# Altium footprint library AAI_PCB.PCB_Library.PcbLib: 16 footprints
Each footprint in its own frame and in the unit in brackets; x right, y up, seen from the top. Pads: shape width x height; smd on the part's side, far side on the other; paste and mask are expansions set on the pad; w line width, h text height; cw(c..) or ccw(c..) is an arc to the next point about the centre after c.
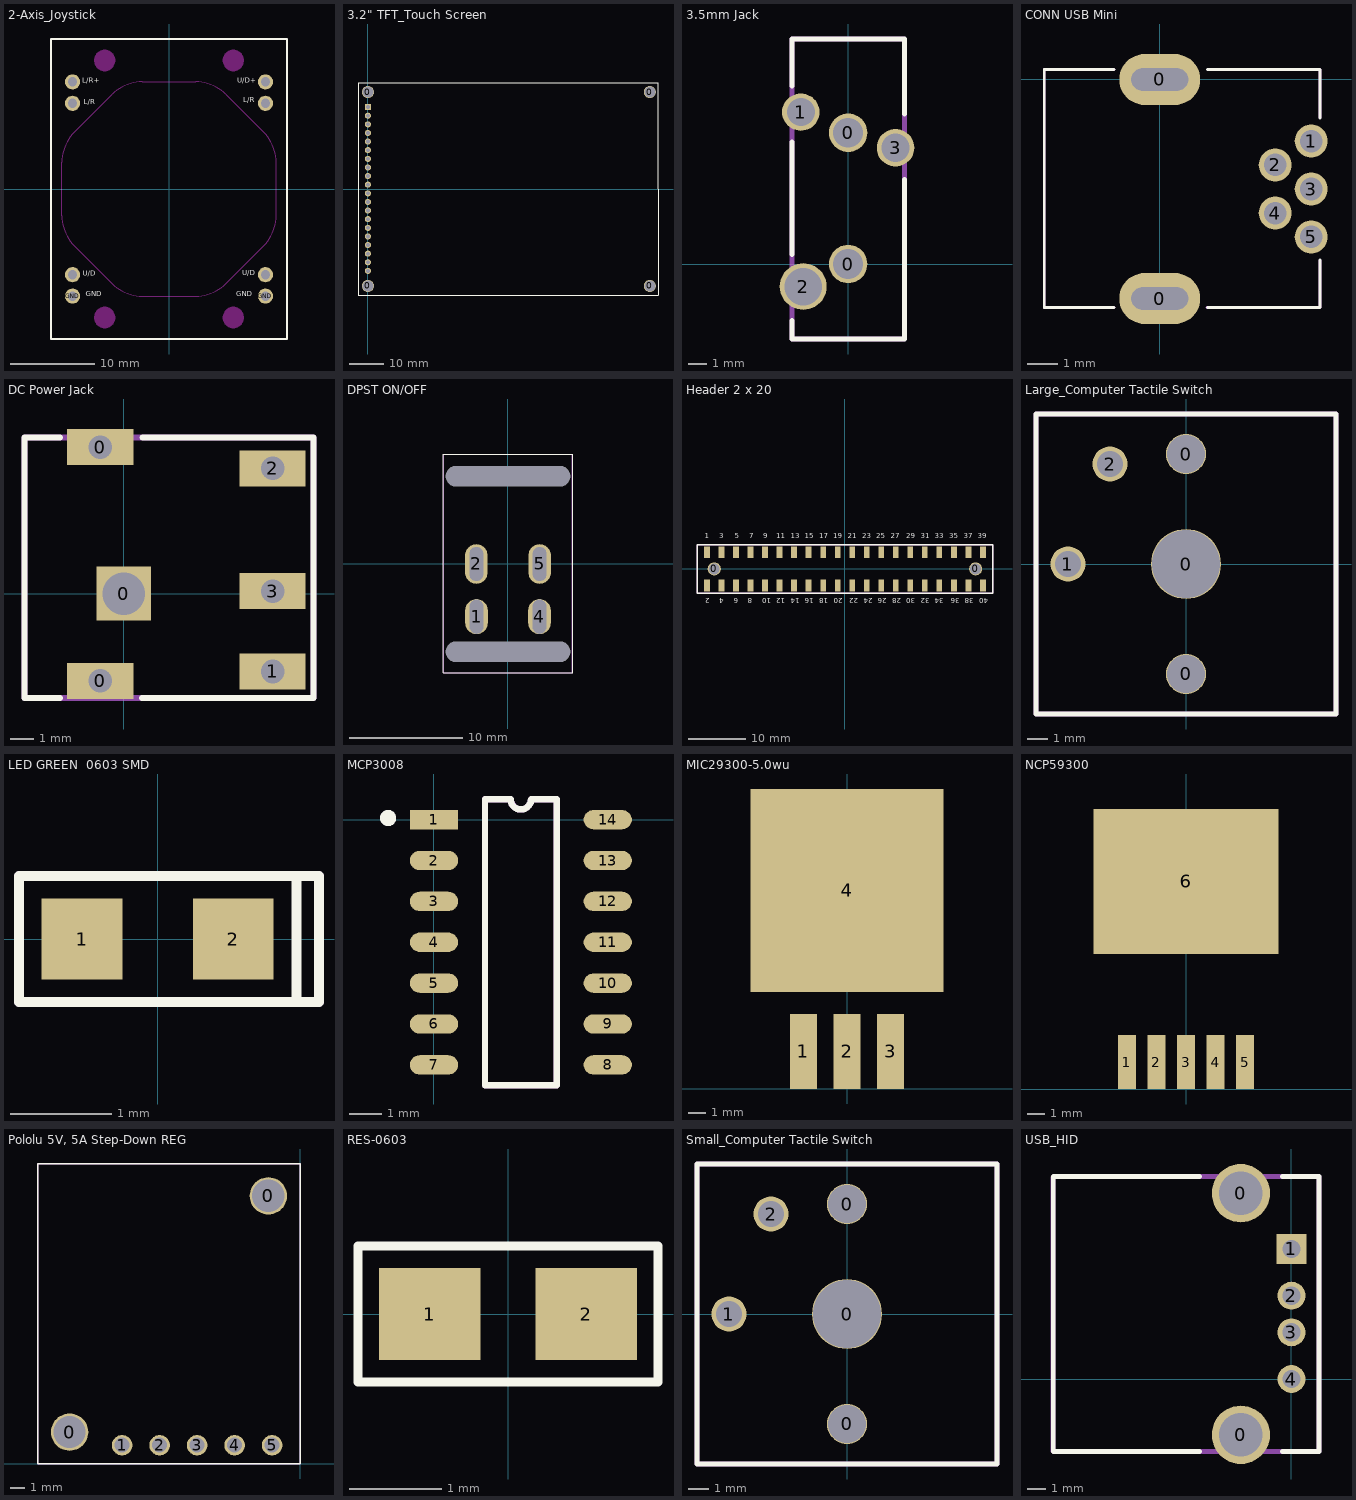
[diagram p0: the footprints below, top view; thin cyan lines are the x and y axes]

## 2-Axis_Joystick [mm] "Parallax 2-Axis Joystick"
pads (8):
  round 1.8 hole 1.1: GND(-11.43,-12.7) GND(11.43,-12.7) L/R+(-11.43,12.7) L/R_Pin(-11.43,10.16) L/R_Pin(11.43,10.16) U/D+(11.43,12.7) U/D_Pin(-11.43,-10.16) U/D_Pin(11.43,-10.16)
Top Overlay:
  lines w0.254: -13.97,-17.78 13.97,-17.78 13.97,17.78 -13.97,17.78 -13.97,-17.78
  text "U/D+" at 8.071,12.33 h1.02
  text "L/R" at 8.807,10.038 h1.02
  text "L/R" at -10.077,9.809 h1.02
  text "L/R+" at -10.262,12.33 h1.02
  text "U/D" at -10.217,-10.542 h1.02
  text "U/D" at 8.668,-10.454 h1.02
  text "GND" at -9.849,-12.93 h1.02
  text "GND" at 7.982,-12.974 h1.02
Keep-Out Layer:
  board cut-out: -7.62,14.021 -7.74,14.021 -7.976,14.068 -8.198,14.16 -8.397,14.293 -8.567,14.463 -8.7,14.662 -8.792,14.884 -8.839,15.12 -8.839,15.24 -8.839,15.36 -8.792,15.596 -8.7,15.818 -8.567,16.017 -8.397,16.187 -8.198,16.32 -7.976,16.412 -7.74,16.459 -7.62,16.459 -7.5,16.459 -7.264,16.412 -7.042,16.32 -6.843,16.187 -6.673,16.017 -6.54,15.818 -6.448,15.596 -6.401,15.36 -6.401,15.24 -6.401,15.12 -6.448,14.884 -6.54,14.662 -6.673,14.463 -6.843,14.293 -7.042,14.16 -7.264,14.068 -7.5,14.021
  board cut-out: 7.62,14.021 7.5,14.021 7.264,14.068 7.042,14.16 6.843,14.293 6.673,14.463 6.54,14.662 6.448,14.884 6.401,15.12 6.401,15.24 6.401,15.36 6.448,15.596 6.54,15.818 6.673,16.017 6.843,16.187 7.042,16.32 7.264,16.412 7.5,16.459 7.62,16.459 7.74,16.459 7.976,16.412 8.198,16.32 8.397,16.187 8.567,16.017 8.7,15.818 8.792,15.596 8.839,15.36 8.839,15.24 8.839,15.12 8.792,14.884 8.7,14.662 8.567,14.463 8.397,14.293 8.198,14.16 7.976,14.068 7.74,14.021
  board cut-out: -8.839,-15.24 -8.839,-15.36 -8.792,-15.596 -8.7,-15.818 -8.567,-16.017 -8.397,-16.187 -8.198,-16.32 -7.976,-16.412 -7.74,-16.459 -7.62,-16.459 -7.5,-16.459 -7.264,-16.412 -7.042,-16.32 -6.843,-16.187 -6.673,-16.017 -6.54,-15.818 -6.448,-15.596 -6.401,-15.36 -6.401,-15.24 -6.401,-15.12 -6.448,-14.884 -6.54,-14.662 -6.673,-14.463 -6.843,-14.293 -7.042,-14.16 -7.264,-14.068 -7.5,-14.021 -7.62,-14.021 -7.74,-14.021 -7.976,-14.068 -8.198,-14.16 -8.397,-14.293 -8.567,-14.463 -8.7,-14.662 -8.792,-14.884 -8.839,-15.12
  board cut-out: 6.401,-15.24 6.401,-15.36 6.448,-15.596 6.54,-15.818 6.673,-16.017 6.843,-16.187 7.042,-16.32 7.264,-16.412 7.5,-16.459 7.62,-16.459 7.74,-16.459 7.976,-16.412 8.198,-16.32 8.397,-16.187 8.567,-16.017 8.7,-15.818 8.792,-15.596 8.839,-15.36 8.839,-15.24 8.839,-15.12 8.792,-14.884 8.7,-14.662 8.567,-14.463 8.397,-14.293 8.198,-14.16 7.976,-14.068 7.74,-14.021 7.62,-14.021 7.5,-14.021 7.264,-14.068 7.042,-14.16 6.843,-14.293 6.673,-14.463 6.54,-14.662 6.448,-14.884 6.401,-15.12
Keep-Out Layer:
  circle w0.013: c-7.62,15.24 r1.219
  circle w0.013: c7.62,15.24 r1.219
  circle w0.013: c-7.62,-15.24 r1.219
  circle w0.013: c7.62,-15.24 r1.219
  lines w0.013: -12.7,-3.156 ccw(c-7.62,-3.156) -11.212,-6.748 -6.748,-11.212 ccw(c-3.156,-7.62) -3.156,-12.7 3.156,-12.7 ccw(c3.156,-7.62) 6.748,-11.212 11.212,-6.748 ccw(c7.62,-3.156) 12.7,-3.156 12.7,3.156 ccw(c7.62,3.156) 11.212,6.748 6.748,11.212 ccw(c3.156,7.62) 3.156,12.7 -3.156,12.7 ccw(c-3.156,7.62) -6.748,11.212 -11.212,6.748 ccw(c-7.62,3.156) -12.7,3.156 -12.7,-3.156
3D body "Parallax Joystick.STEP": height 16.45, standoff -13.14, extent -13.868,-17.805 14.072,17.755

## 3.2" TFT_Touch Screen [mm]
pads (24):
  round 3.556 hole 3.251: 0(0,-28.575) 0(0,28.575) 0(83.058,-28.575) 0(83.058,28.575)
  rect 1.8x1.8 hole 1.1: 1(0,24.13)
  round 1.8 hole 1.1: 2(0,21.59) 3(0,19.05) 4(0,16.51) 5(0,13.97) 6(0,11.43) 7(0,8.89) 8(0,6.35) 9(0,3.81) 10(0,1.27) 11(0,-1.27) 12(0,-3.81) 13(0,-6.35) 14(0,-8.89) 15(0,-11.43) 16(0,-13.97) 17(0,-16.51) 18(0,-19.05) 19(0,-21.59) 20(0,-24.13)
Top Overlay:
  lines w0.2: -2.921,-31.242 85.471,-31.242 85.471,31.242 -2.921,31.242 -2.921,-31.242

## 3.5mm Jack [mm] "STX-3501-3N"
pads (5):
  round 2.05 hole 1.6: 0(0,0) 0(0,7)
  round 2 hole 1.5: 1(-2.525,8.1) 3(2.525,6.2)
  round 2.5 hole 2: 2(-2.4,-1.2)
Top Overlay:
  lines w0.254: -3,-3 -3,-4 3,-4 3,4.5 ; -3,0.5 -3,6.5 ; -3,9.5 -3,12 3,12 3,8
Mechanical 29:
  lines w0.254: -3,-4 3,-4 3,12 -3,12 -3,-4
  text ".designator" at 0.238,-3.746 h1.52
3D body "STX-3501-3N_rA3.STEP": height 5, standoff -2.6, extent -3,-4 3,13

## CONN USB Mini [mm]
pads (7):
  oval 2.7x1.7 hole 0.75 slot 1.9 at 0 deg: 0(0,-7.3) 0(0,0)
  round 1.1 hole 0.75: 1(5.05,-2.05) 2(3.85,-2.85) 3(5.05,-3.65) 4(3.85,-4.45) 5(5.05,-5.25)
Top Overlay:
  lines w0.1: -1.525,-7.6 -3.85,-7.6 -3.85,0.325 -1.525,0.325 ; 1.6,-7.6 5.35,-7.6 5.35,-6.025 ; 1.6,0.325 5.35,0.325 5.35,-1.275
Mechanical 29:
  lines w0.1: -1.525,-7.6 -3.85,-7.6 -3.85,0.325 -1.525,0.325 ; 1.575,-7.6 5.35,-7.6 5.35,-6.025 ; 1.6,0.325 5.35,0.325 5.35,-1.275
  text ".Designator" at -1.075,-3.5 h0.6
3D body "548190519.stp": height 3.96, standoff -1.79, extent -3.725,-7.5 5.275,0.2

## DC Power Jack [mm] "CUI_DEVICES_PJ-051AH"
pads (6):
  rect 2.8x1.524 hole 1 square: 0(-1,-3.7) 0(-1,6.2) 1(6.3,-3.3) 2(6.3,5.3) 3(6.3,0.1)
  rect 2.3x2.3 hole 1.8 square: 0(0,0)
Top Overlay:
  lines w0.254: -2.7,-4.425 -4.2,-4.425 -4.2,6.6 -2.7,6.6 ; 0.778,-4.425 8.025,-4.425 8.025,6.6 5.3,6.6 0.8,6.6
Mechanical 29:
  lines w0.254: -4.2,-4.425 8.025,-4.425 8.025,6.6 -4.2,6.6 -4.2,-4.425
  text ".designator" at -1.771,1.711 h1.52
3D body "CUI_DEVICES_PJ-051AH.STEP": height 7.3, standoff -2.5, extent -3.975,-3.8 7.775,6.3

## DPST ON/OFF [mm] "ON/OFF Switch"
pads (6):
  rect 0x0 hole 1.8 slot 11 at 0 deg paste+0 mask+0: 0(0,-7.75)
  round 0 hole 1.8 slot 11 at 0 deg paste+0 mask+0: 0(0,7.75)
  oval 2x3.1 hole 3 slot 1.2 at 0 deg: 1(-2.782,-4.649) 4(2.782,-4.649)
  oval 2x3.5 hole 3 slot 1.2 at 0 deg mask+0.127: 2(-2.8,0) 5(2.8,0)
Top Overlay:
  lines w0.1: -5.7,-9.6 -5.7,9.7 -5.5,9.7 5.7,9.7 5.7,-9.6 -5.7,-9.6
Mechanical 29:
  lines w0.051: -5.69,-9.601 5.69,-9.601 5.69,9.703 -5.69,9.703 -5.69,-9.601
  text ".designator" at -3.448,3.309 h1.52
3D body "onoff switch_L201011MS02Q.STEP": height 12.7, standoff -5.71, extent -5.334,-9.474 5.334,9.576

## Header 2 x 20 [mm] "M20-781"
pads (42):
  round 2.3 hole 1.9: 0(-22.86,0) 0(22.86,0)
  rect 1.02x2.05 smd: 1(-24.13,2.91) 2(-24.13,-2.91) 3(-21.59,2.91) 4(-21.59,-2.91) 5(-19.05,2.91) 6(-19.05,-2.91) 7(-16.51,2.91) 8(-16.51,-2.91) 9(-13.97,2.91) 10(-13.97,-2.91) 11(-11.43,2.91) 12(-11.43,-2.91) 13(-8.89,2.91) 14(-8.89,-2.91) 15(-6.35,2.91) 16(-6.35,-2.91) 17(-3.81,2.91) 18(-3.81,-2.91) 19(-1.27,2.91) 20(-1.27,-2.91) 21(1.27,2.91) 22(1.27,-2.91) 23(3.81,2.91) 24(3.81,-2.91) 25(6.35,2.91) 26(6.35,-2.91) 27(8.89,2.91) 28(8.89,-2.91) 29(11.43,2.91) 30(11.43,-2.91) 31(13.97,2.91) 32(13.97,-2.91) 33(16.51,2.91) 34(16.51,-2.91) 35(19.05,2.91) 36(19.05,-2.91) 37(21.59,2.91) 38(21.59,-2.91) 39(24.13,2.91) 40(24.13,-2.91)
Top Overlay:
  lines w0.254: -25.88,-4.25 -25.88,4.25 25.87,4.25 25.87,-4.25 -25.88,-4.25
  text "1" at -24.507,4.969 h1.52
  text "3" at -22.007,4.986 h1.52
  text "5" at -19.257,4.986 h1.52
  text "7" at -16.757,4.969 h1.52
  text "9" at -14.257,4.986 h1.52
  text "11" at -12.007,4.969 h1.52
  text "13" at -9.507,4.986 h1.52
  text "15" at -7.007,4.986 h1.52
  text "17" at -4.507,4.969 h1.52
  text "19" at -2.007,4.986 h1.52
  text "21" at 0.492,4.969 h1.52
  text "23" at 2.992,4.986 h1.52
  text "25" at 5.492,4.986 h1.52
  text "27" at 7.992,4.969 h1.52
  text "29" at 10.742,4.986 h1.52
  text "31" at 13.243,4.986 h1.52
  text "33" at 15.743,4.986 h1.52
  text "35" at 18.243,4.986 h1.52
  text "37" at 20.743,4.986 h1.52
  text "39" at 23.243,4.986 h1.52
  text "40" at 25.073,-4.808 h1.52
  text "38" at 22.573,-4.808 h1.52
  text "36" at 20.073,-4.808 h1.52
  text "34" at 17.323,-4.808 h1.52
  text "32" at 14.823,-4.808 h1.52
  text "30" at 12.323,-4.808 h1.52
  text "28" at 9.825,-4.808 h1.52
  text "26" at 7.325,-4.808 h1.52
  text "24" at 4.825,-4.791 h1.52
  text "22" at 2.325,-4.791 h1.52
  text "20" at -0.425,-4.808 h1.52
  text "18" at -2.927,-4.808 h1.52
  text "16" at -5.427,-4.808 h1.52
  text "14" at -7.927,-4.791 h1.52
  text "12" at -10.427,-4.791 h1.52
  text "10" at -12.927,-4.808 h1.52
  text "8" at -16.177,-4.808 h1.52
  text "6" at -18.677,-4.808 h1.52
  text "4" at -21.177,-4.791 h1.52
  text "2" at -23.675,-4.791 h1.52
Mechanical 29:
  lines w0.254: -25.88,-4.25 25.87,-4.25 25.87,4.25 -25.88,4.25 -25.88,-4.25
  text ".designator" at -13.376,-0.238 h1.52
3D body "m20-7812045_asm.stp": height 3.55, standoff -1.4, extent -25.4,-3.575 25.4,3.625

## Large_Computer Tactile Switch [mm] "CPG135001D02_-_Brown_Tactile_Choc"
pads (5):
  round 2 hole 1.9: 0(0,-5.5) 0(0,5.5)
  round 3.5 hole 3.4: 0(0,0)
  round 1.75 hole 1.3: 1(-5.9,0) 2(-3.8,5)
Top Overlay:
  lines w0.254: -7.5,-7.5 7.5,-7.5 7.5,7.5 -7.5,7.5 -7.5,-7.5
Mechanical 29:
  lines w0.254: -7.5,-7.475 -7.5,7.475 -7.475,7.5 7.5,7.5 7.5,-7.5 -7.475,-7.5 -7.5,-7.475
  text ".Designator" at 3.525,-0.639 h1.52
3D body "Kailh Low Profile.STEP": height 0.73, standoff -17.9, extent -15.875,-15.875 15.875,15.875

## LED GREEN  0603 SMD [mm]
pads (2):
  rect 0.8x0.8 smd: 1(-0.75,0) 2(0.75,0)
Top Overlay:
  lines w0.1: 1.375,-0.625 1.375,0.625 ; -1.375,-0.625 1.6,-0.625 1.6,0.625 -1.375,0.625 -1.375,-0.625
Mechanical 29:
  lines w0.1: -1.375,-0.625 1.6,-0.625 1.6,0.625 -1.375,0.625 -1.375,-0.625
  text ".Designator" at -1.05,-0.325 h1
3D body "User Library-led_0603LED0603 orange.STEP": height 0.6, standoff 0, extent -0.81,-0.4 0.81,0.4
3D body: height 0.57, standoff 0, extent -0.125,-0.125 0.125,0.125

## MCP3008 [mm]
pads (14):
  rect 1.5x0.6 smd: 1(0,0)
  oval 1.5x0.6 smd: 2(0,-1.27) 3(0,-2.54) 4(0,-3.81) 5(0,-5.08) 6(0,-6.35) 7(0,-7.62) 8(5.4,-7.62) 9(5.4,-6.35) 10(5.4,-5.08) 11(5.4,-3.81) 12(5.4,-2.54) 13(5.4,-1.27) 14(5.4,0)
Top Overlay:
  circle w0.254: c-1.425,0.05 r0.125
  lines w0.2: 1.585,-8.255 1.585,0.635 2.382,0.635 ccw(c2.7,0.635) 3.017,0.635 3.815,0.635 3.815,-8.255 1.585,-8.255
Mechanical 29:
  lines w0.2: 1.585,-8.255 3.815,-8.255 3.815,0.635 3.015,0.635 cw(c2.7,0.635) 2.385,0.635 1.585,0.635 1.585,-8.255
  text ".Designator" at 3.069,-7.36 h1.52
3D body "MCP3008-SOIC14.step": height 1.75, standoff 0, extent -0.115,-8.06 5.685,0.47

## MIC29300-5.0wu [mil] "IC REG LINEAR 5V 3A TO263-3"
pads (4):
  rect 62x172 smd: 1(-100,86) 2(0,86) 3(100,86)
  rect 442x465 smd: 4(0,455)
3D body "User Library-TO-263-3.step": height 181.1, standoff 0, extent -202.76,27.51 202.76,622

## NCP59300 [mm] "5V 3.0A Regulator DPAK Case 936"
pads (6):
  rect 1.016x3.1 smd: 1(-3.404,1.55) 2(-1.702,1.55) 3(0,1.55) 4(1.702,1.55) 5(3.404,1.55)
  rect 10.66x8.38 smd: 6(0,11.965)
3D body "TO-263BA.step": height 4.38, standoff 0, extent -5.097,0.928 5.127,14.974

## Pololu 5V, 5A Step-Down REG [mil] "D24V50F5"
pads (7):
  round 100 hole 86: 0(-615,85) 0(-85,715)
  round 55 hole 40: 1(-475,50) 2(-375,50) 3(-275,50) 4(-175,50) 5(-75,50)
Top Overlay:
  lines w4: -700,0 0,0 0,800 -700,800 -700,0
Mechanical 1:
  lines w4: -700,0 -700,800 0,800 0,0 -700,0
  text ".Designator" at -527,394.02 h80
3D body "d24v50f5-step-down-voltage-regulator.step": height 402.16, standoff 56.69, extent -697.99,0 2.01,800

## RES-0603 [mm]
pads (2):
  rect 1.1x1 smd: 1(-0.85,0) 2(0.85,0)
Top Overlay:
  lines w0.102: -1.626,-0.737 -1.626,0.737 1.626,0.737 1.626,-0.737 -1.626,-0.737
Mechanical 29:
  text ".Designator" at -1.143,-0.133 h0.51
3D body "SW3DPS-RESISTOR 0603-DEFAULT.STEP": height 0.53, standoff 0.02, extent -0.8,-0.415 0.8,0.445

## Small_Computer Tactile Switch [mm] "CPG135001D02_-_Brown_Tactile_Choc"
pads (5):
  round 2 hole 1.9: 0(0,-5.5) 0(0,5.5)
  round 3.5 hole 3.4: 0(0,0)
  round 1.75 hole 1.3: 1(-5.9,0) 2(-3.8,5)
Top Overlay:
  lines w0.254: -7.5,-7.5 -7.5,7.5 7.5,7.5 7.5,-7.5 -7.5,-7.5
Mechanical 29:
  lines w0.254: -7.5,-7.475 -7.475,-7.5 7.5,-7.5 7.5,7.5 -7.475,7.5 -7.5,7.475 -7.5,-7.475
  text ".Designator" at 3.525,-0.639 h1.52
3D body "Kailh Low Profile - small.STEP": height 17.9, standoff -0.73, extent -12.725,-12.7 12.675,12.7

## USB_HID [mm]
pads (6):
  round 3.18 hole 2.38: 0(-2.76,-3.045) 0(-2.76,10.145)
  rect 1.651x1.651 hole 1: 1(0,7.1)
  round 1.524 hole 1: 2(0,4.55) 3(0,2.55) 4(0,0)
Top Overlay:
  lines w0.254: -5,-3.95 -13,-3.95 -13,11.05 -5,11.05 ; -0.5,-3.95 1.5,-3.95 1.5,11.05 1,11.05 -0.5,11.05
Mechanical 29:
  lines w0.254: -0.5,11.05 1.5,11.05 ; 1.5,11.05 1.5,-3.95 -13,-3.95 -13.012,-3.938 -13.012,10.999 -12.961,11.05 1.5,11.05
  text ".designator" at -11,-1.95 h1.52
3D body: height 4.31, standoff -3.49, extent -9.093,8.884 -9.093,8.884
3D body "M-UE27-AC54-100-REVT1.STEP": height 7.61, standoff -3.13, extent -13.012,-3.849 0.788,10.999